# Altium footprint library USB micro B connector footprint.PcbLib: 1 footprints
Each footprint in its own frame and in the unit in brackets; x right, y up, seen from the top. Pads: shape width x height; smd on the part's side, far side on the other; paste and mask are expansions set on the pad; w line width, h text height; cw(c..) or ccw(c..) is an arc to the next point about the centre after c.
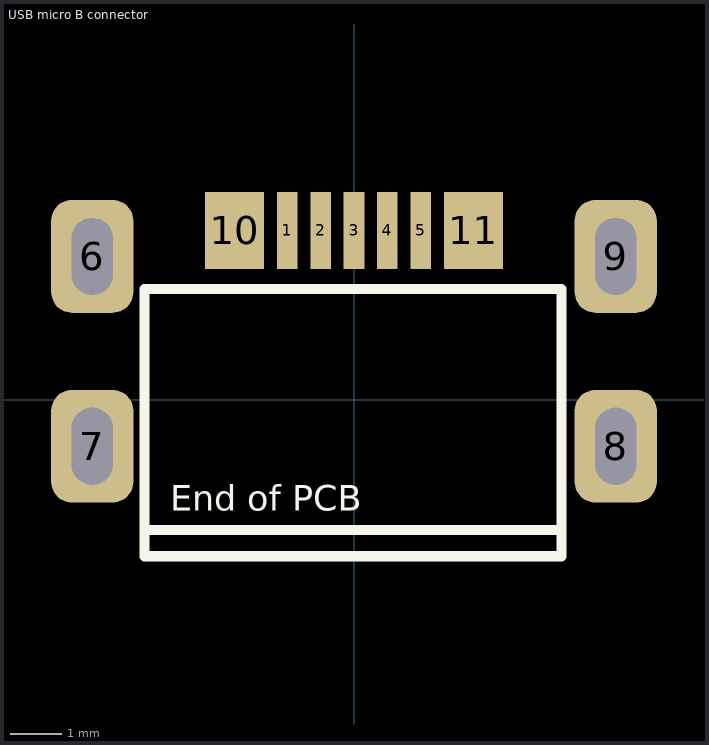
[diagram p0: the footprint, top view; thin cyan lines are the x and y axes]

## USB micro B connector [mm]
pads (11):
  rect 0.4x1.5 smd paste+0 mask+0.05: 1(-1.3,3.302) 2(-0.65,3.302) 3(0,3.302) 4(0.65,3.302) 5(1.3,3.302)
  rrect50% 1.6x2.2 hole 0.8 slot 1.5 at 90 deg paste+0 mask+0.05: 6(-5.1,2.794) 7(-5.1,-0.906) 8(5.1,-0.906) 9(5.1,2.794)
  rect 1.15x1.5 smd paste+0 mask+0.05: 10(-2.325,3.302) 11(2.325,3.302)
Top Overlay:
  lines w0.2: -4.084,-2.54 -4.084,-3.048 4.044,-3.048 4.044,-2.54 ; -4.084,-2.54 -4.084,2.159 4.044,2.159 4.044,-2.54 ; -4.084,-2.54 4.044,-2.54
  text "End of PCB" at -3.576,-2.159 h0.5